# Altium schematic symbol library STM8 Relatives.SchLib: 32 symbols
Pins are listed as number, name and electrical type; pins without a type are passive.

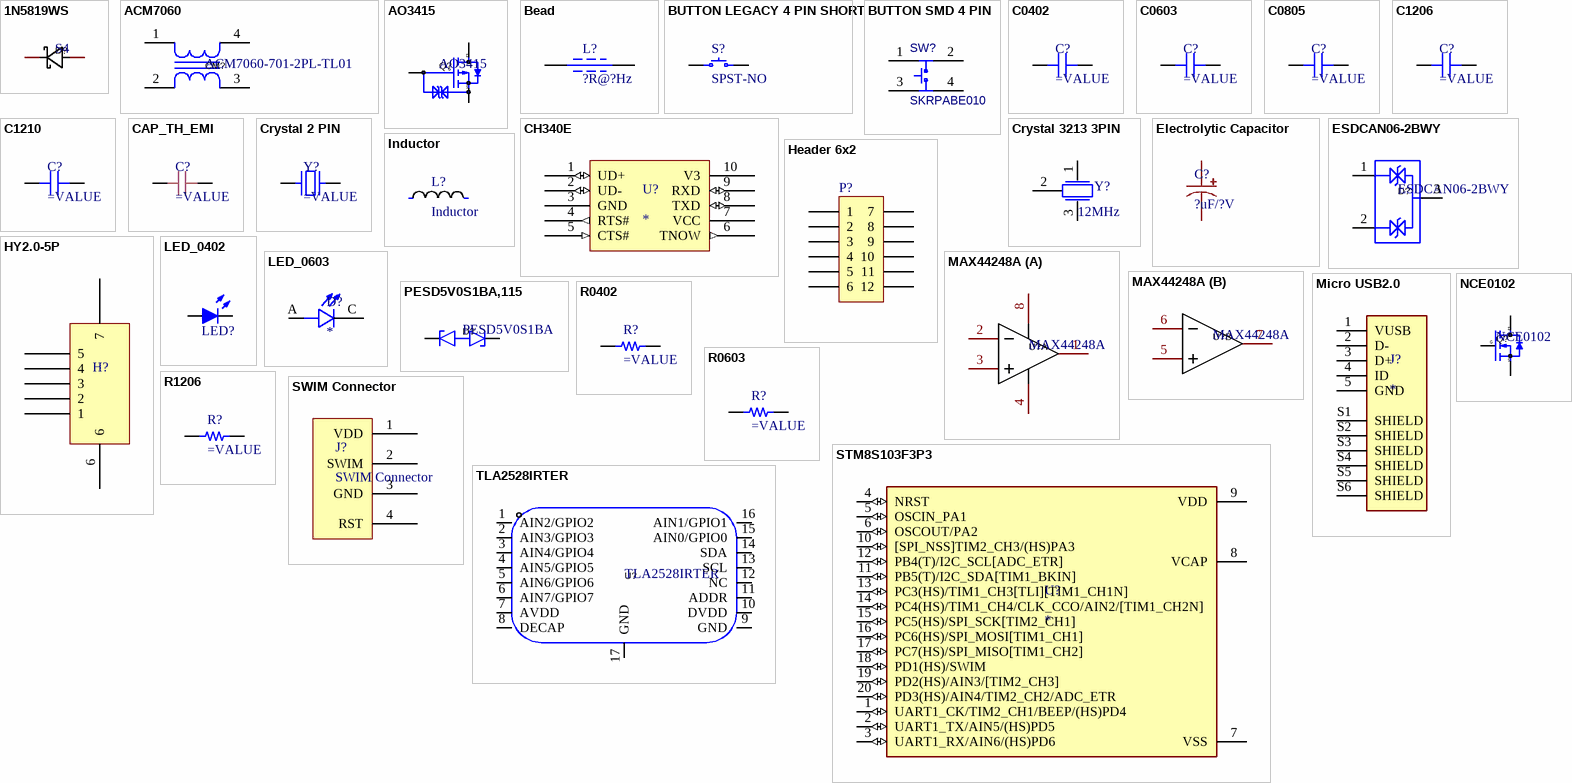
[diagram p0: symbols 1N5819WS to TLA2528IRTER]

## 1N5819WS
designator D?, comment S4
Schottky Diode 1N5819 , S4; Manufacturer: JSMSEMI(杰盛微); Symbol: 1N5819WS S4; Device: 1N5819WS S4_C2927280; Add into BOM: yes; Diode Configuration: 独立式; Forward Voltage (Vf@If): 600mV@200mA; Reverse Voltage (Vr): 40V; Average Rectified Current (Io): 350mA; Reverse Leakage Current (Ir): 5uA@30V; Supplier: LCSC; Supplier Part: C2927280; Manufacturer Part: 1N5819WS S4; JLCPCB Part Class: Extended Part; LCSC Part Name: 电压:40V 电流:350mA; Supplier Footprint: SOD-323; Datasheet: https://atta.szlcsc.com/upload/public/pdf/source/20211230/020DF3ABCB41CBA5E28580D63AFB2CA3.pdf; Convert to PCB: yes
footprint SOD-323
pins: 1 C, 2 A

## ACM7060
designator CM?, comment ACM7060-701-2PL-TL01
Common mode filter Rated 80V 5A.; Manufacturer: TDK; Add into BOM: yes; Number of Lines: 2; Withstanding Voltage: 125V; Current Rating: 4A; Impedance @ Frequency: 700Ω@100MHz; DC Resistance (DCR): 15mΩ; Symbol: ACM7060-701-2PL-TL01; Device: ACM7060-701-2PL-TL01; LCSC Part Name: 两路 贴片共模滤波器 阻抗700Ω@100MHz; Supplier Part: C78246; Manufacturer Part: ACM7060-701-2PL-TL01; Supplier Footprint: SMD,7x6mm; JLCPCB Part Class: Extended Part; Datasheet: https://atta.szlcsc.com/upload/public/pdf/source/20160920/1474351323872.pdf; Supplier: LCSC; Convert to PCB: yes; Voltage Rating - DC: 80V; Operating Temperature: -40℃~+85℃
footprint FILTER-SMD_4P-L7.0-W6.0
pins: 1, 2, 3, 4

## AO3415
designator Q?
20V Low Rds P-Channel MOSFET - Hottech; Manufacturer: Hottech(合科泰); Symbol: AO3415_C181094; Add into BOM: yes; Type: P沟道; Continuous Drain Current (Id): 4A; Power Dissipation (Pd): 1.5W; Drain Source On Resistance (RDS(on)@Vgs,Id): 41mΩ@4.5V,4A; Gate Threshold Voltage (Vgs(th)@Id): 900mV@250uA; Device: AO3415_C181094; LCSC Part Name: P沟道 耐压:20V 电流:4A; Supplier Part: C181094; Manufacturer Part: AO3415; Supplier Footprint: SOT-23; JLCPCB Part Class: Extended Part; Datasheet: https://atta.szlcsc.com/upload/public/pdf/source/20180131/C181094_15173931965481329223.pdf; Supplier: LCSC; Convert to PCB: yes; Drain Source Voltage (Vdss): 20V
footprint SOT-23-3
pins: 1 G, 2 S, 3 D

## Bead
designator L?, comment ?R@?Hz
Ferrite Bead.
footprint 0603_L
footprint 0805_L
pins: 1, 2

## BUTTON LEGACY 4 PIN SHORT
designator S?, comment SPST-NO
footprint BUTTON TE FSM4JSMA
pins: 1, 2, 3, 4

## BUTTON SMD 4 PIN
designator SW?, comment SKRPABE010
Surface Mount Button; BOM_Manufacturer: ALPS; BOM_Supplier: LCSC; BOM_Manufacturer Part: SKRPABE010; BOM_Supplier Part: C115360; spicePre: S; spiceSymbolName: SKRPABE010
footprint BUTTON SMD 4P_L4.20-W3.20
pins: 1, 2, 3, 4

## C0402
designator C?
SMT Capacitor
footprint 0402_C
pins: 1, 2

## C0603
designator C?
SMT Capacitor
footprint 0603_C
pins: 1, 2

## C0805
designator C?
SMT Capacitor
footprint 0805_C
pins: 1, 2

## C1206
designator C?
SMT Capacitor
footprint 1206_C
pins: 1, 2

## C1210
designator C?
Surface mount ceramic capacitor.
footprint 1210_C
pins: 1, 2

## CAP_TH_EMI
designator C?
Through Hole Capacitor - Thin Film , LC Resonance Capacitor
footprint CAP-TH_L7.2-W3.5
pins: 1, 2

## CH340E
designator U?
USB to Serial Port Chip CH340
footprint MSOP-10
pins: 1 UD+ (io), 2 UD- (io), 3 GND (power), 4 RTS# (out), 5 CTS# (in), 6 TNOW (out) "CH340T/E/X/B: Ongoing data transmission", 7 VCC (power), 8 TXD (io), 9 RXD (io), 10 V3 (power) "Connect to VCC when VCC is 3V3, connect"

## Crystal 2 PIN
designator Y?
SMT Crystal
footprint Crystal 2PIn (Crystal, 2-Leads, Body 1.20x2.00mm, Pitch 1.50mm, IPC Medium Density)
pins: 1, 2

## Crystal 3213 3PIN
designator Y?, comment 12MHz
Crystal 3213 3pin, no external compensation capacitors needed.
footprint SMD3213_3P
pins: 1, 2, 3

## Electrolytic Capacitor
designator C?, comment ?uF/?V
Electrolytic Capacitor
footprint CAP-SMD_4x5.4mm
footprint CAP-SMD_6.3X7.7MM
footprint CAP-SMD_10X10.5MM
pins: 1, 2

## ESDCAN06-2BWY
designator D?
ESD protection, Dual Line TVS. Vrm = 35v  Vbr =42.2v; Manufacturer: ST(意法半导体); Add into BOM: yes; Maximum Clamping Voltage: 59V; Peak Pulse Current (Ipp)@10/1000us: 3A@(8/20us); Peak Pulse Power Dissipation (Ppp)@10/1000us: 170W; Breakdown Voltage: 38V; Number of Lines: 双路; Symbol: ESDCAN06-2BWY; Device: ESDCAN06-2BWY; Supplier: LCSC; Supplier Part: C1973761; Manufacturer Part: ESDCAN06-2BWY; JLCPCB Part Class: Extended Part; LCSC Part Name: ESDCAN06-2BWY; Supplier Footprint: SOT-323-3; Datasheet: https://atta.szlcsc.com/upload/public/pdf/source/20210601/EE22EC2D769ED57BA217B6DB28AAC84F.pdf; Convert to PCB: yes; Reverse Stand-Off Voltage (Vrwm): 35V; Operating Temperature: -55℃~+175℃@(Tj); Type: ESD
footprint SOT-23-3
pins: 1, 2, 3

## Header 6x2
designator P?
Header 6x2 100mil; LatestRevisionDate: 17-Jul-2002; LatestRevisionNote: Re-released for DXP Platform.; Publisher: Altium Limited
signal-integrity model Connector
footprint 2.54MM_2X6
pins: 1, 2, 3, 4, 5, 6, 7, 8, 9, 10, 11, 12

## HY2.0-5P
designator H?  (value not drawn)
2.0mm Spacing Connector
footprint CON-SMD_HY2.0-5P
pins: 1, 2, 3, 4, 5, 6, 7

## Inductor
designator L?
User selectable inductor
footprint IND-SMD_0420
pins: 1, 2

## LED_0402
designator LED?
LED; MPN: LTST-C191TBKT-5A; MF: Lite-On; Current rating: 20mA; Colour: Blue
footprint 0402_LED
pins: 1 A, 2 K

## LED_0603
designator D?
CHIP LED WHITE 0603 TOP VIEW; MP: LTW-C191TLA; Package: None; Availability: Unavailable; Value: *; Price: None
footprint 0603_LED
pins: A, C

## MAX44248A
designator U?
Precision Op-Amp with Vos 2uV; Manufacturer: MAXIM(美信); Symbol: MAX44248ASA+T; Add into BOM: yes; Number of Circuits: 2; Device: MAX44248ASA+T; LCSC Part Name: MAX44248ASA; Supplier Part: C92065; Manufacturer Part: MAX44248ASA+T; Supplier Footprint: SO-8; JLCPCB Part Class: Extended Part; Datasheet: https://atta.szlcsc.com/upload/public/pdf/source/20170105/1483610783114.pdf; Supplier: LCSC; Convert to PCB: yes
footprint SO-8
footprint UMAX-8
part A pins: 1 OUTA, 2 INA-, 3 INA+, 4 VSS, 8 VDD
part B pins: 5 INB+, 6 INB-, 7 OUTB

## Micro USB2.0
designator J?
Micro USB 2.0, Input Output Connectors, B TYPE RECEPTACLE; MP: 10118193-0001LF; MF: Amphenol ICC; Value: *; Package: None; Check_prices: https://www.snapeda.com/parts/10118193-0001LF/Amphenol+FCI/view-part/?ref=eda; Purchase-URL: https://pricing.snapeda.com/search/part/10118193-0001LF/?ref=eda; Price: None; Availability: In Stock; SnapEDA_Link: https://www.snapeda.com/parts/10118193-0001LF/Amphenol+FCI/view-part/?ref=snap
footprint Micro USB 2.0
pins: 1 VUSB, 2 D-, 3 D+, 4 ID, 5 GND, S1 SHIELD, S2 SHIELD, S3 SHIELD, S4 SHIELD, S5 SHIELD, S6 SHIELD

## NCE0102
designator Q?
N-Channel MOSFET, Rds < 240m Ohm; Manufacturer: NCE(无锡新洁能); Add into BOM: yes; Type: N沟道; Drain Source Voltage (Vdss): 100V; Continuous Drain Current (Id): 2A; Power Dissipation (Pd): 1.25W; Drain Source On Resistance (RDS(on)@Vgs,Id): 240mΩ@10V,1A; Gate Threshold Voltage (Vgs(th)@Id): 2.5V@250uA; Symbol: NCE0102; Device: NCE0102; LCSC Part Name: N沟道 耐压:100V 电流:2A; Supplier Part: C161843; Manufacturer Part: NCE0102; Supplier Footprint: SOT-23; JLCPCB Part Class: Extended Part; Datasheet: https://atta.szlcsc.com/upload/public/pdf/source/20171230/C161843_15146280887171222118.pdf; Supplier: LCSC; Convert to PCB: yes
footprint SOT-23-3
pins: 1 G, 2 S, 3 D

## PESD5V0S1BA,115
designator D?, comment PESD5V0S1BA
Bidirectional TVS, 14.5V; Manufacturer: Nexperia(安世); Symbol: PESD5V0S1BA,115; Add into BOM: yes; polarity: 双向; Reverse Stand-Off Voltage (Vrwm): 5V; Maximum Clamping Voltage: 14V; Peak Pulse Current (Ipp)@10/1000us: 12A; Peak Pulse Power Dissipation (Ppp)@10/1000us: 130W; Breakdown Voltage: 5.5V; Device: PESD5V0S1BA,115; Supplier: LCSC; Manufacturer Part: PESD5V0S1BA,115; Supplier Part: C19224; JLCPCB Part Class: Extended Part; LCSC Part Name: PESD5V0S1BA,115; Supplier Footprint: SOD-323; Datasheet: https://atta.szlcsc.com/upload/public/pdf/source/20161024/1477288630856.pdf; Convert to PCB: yes; Type: TVS
footprint SOD-323_BiD
pins: 1, 2

## R0402
designator R?
SMT Resistor
footprint 0402_R
pins: 1, 2

## R0603
designator R?
SMT Resistor
footprint 0603_R
pins: 1, 2

## R1206
designator R?
SMT Resistor
footprint 1206_R
pins: 1, 2

## STM8S103F3P3
designator U?
STM8 STM8S Microcontroller IC 8-Bit 16MHz 8KB _8K x 8_ FLASH 20-TSSOP; MF: STMicroelectronics; MP: STM8S103F3P3; Package: TSSOP-20 STMicroelectronics; Price: None; Availability: Unavailable; SnapEDA_Link: https://www.snapeda.com/parts/STM8S103F3P3/STMicroelectronics/view-part/443750/?ref=snap; Value: *
footprint SOP65P640X120-20N
pins: 1 UART1_CK/TIM2_CH1/BEEP/(HS)PD4 (io), 2 UART1_TX/AIN5/(HS)PD5 (io), 3 UART1_RX/AIN6/(HS)PD6 (io), 4 NRST (io), 5 OSCIN_PA1 (io), 6 OSCOUT/PA2 (io), 7 VSS (power), 8 VCAP, 9 VDD (power), 10 [SPI_NSS]TIM2_CH3/(HS)PA3 (io), 11 PB5(T)/I2C_SDA[TIM1_BKIN] (io), 12 PB4(T)/I2C_SCL[ADC_ETR] (io), 13 PC3(HS)/TIM1_CH3[TLI][TIM1_CH1N] (io), 14 PC4(HS)/TIM1_CH4/CLK_CCO/AIN2/[TIM1_CH2N] (io), 15 PC5(HS)/SPI_SCK[TIM2_CH1] (io), 16 PC6(HS)/SPI_MOSI[TIM1_CH1] (io), 17 PC7(HS)/SPI_MISO[TIM1_CH2] (io), 18 PD1(HS)/SWIM (io), 19 PD2(HS)/AIN3/[TIM2_CH3] (io), 20 PD3(HS)/AIN4/TIM2_CH2/ADC_ETR (io)

## SWIM Connector
designator J?
SWIM Connector for STM8
footprint SWIM_2.54MM_1X4
pins: 1 VDD (power), 2 SWIM, 3 GND (power), 4 RST

## TLA2528IRTER
designator U?
ADC/GPIO to I2C Converter IC. / 8-Channel, 12-Bit ADC With I / 2C Interface and GPIOs; Manufacturer: TI(德州仪器); Add into BOM: yes; number of channels: 8; Supply Voltage: 2.35V~5.5V; resolution: 12位; Symbol: TLA2528IRTER; Device: TLA2528IRTER; LCSC Part Name: TLA2528IRTER; Supplier Part: C2866175; Manufacturer Part: TLA2528IRTER; Supplier Footprint: WQFN-16-EP(3x3); JLCPCB Part Class: Extended Part; Datasheet: https://www.ti.com/cn/lit/gpn/tla2528; Supplier: LCSC; Convert to PCB: yes; Interface: I2C; Operating Temperature: -40℃~+85℃
footprint WQFN-16
pins: 1 AIN2/GPIO2, 2 AIN3/GPIO3, 3 AIN4/GPIO4, 4 AIN5/GPIO5, 5 AIN6/GPIO6, 6 AIN7/GPIO7, 7 AVDD, 8 DECAP, 9 GND, 10 DVDD, 11 ADDR, 12 NC, 13 SCL, 14 SDA, 15 AIN0/GPIO0, 16 AIN1/GPIO1, 17 GND